# EAGLE library part UC530 (library hybridpi-rf)
Fastrax GPS antenna module Datasheet: UC530 <http://www.u-blox.com/images/downloads/Product_Docs/UC530_DataSheet_(FTX-HW-12009).pdf>
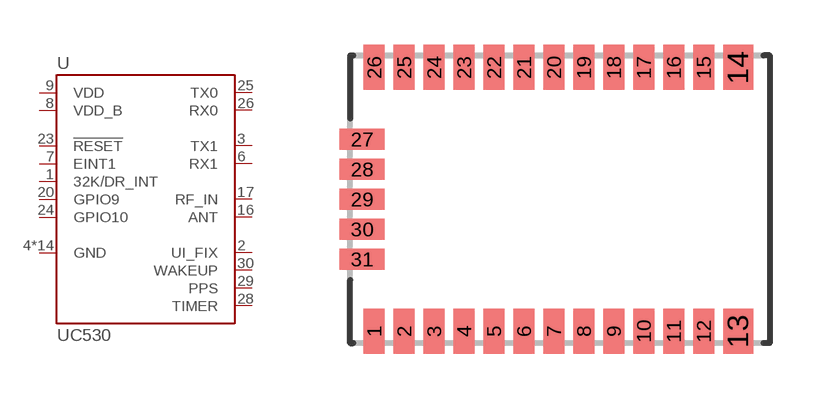
[diagram p0: symbol with the pads of UC530; footprint UC530]

Designator prefix U

## UC530 (EAGLEUP: UC530; VENDOR: MOUSER; VENDOR_PN: 916-UC530)  [UC530]
1  32K/DR_INT
2  UI_FIX
3  TX1
4  GND
5  GND
6  RX1
7  EINT1
8  VDD_B
9  VDD
10  GND
11  GND
12  GND
13  GND
14  GND
15  GND
16  ANT
17  RF_IN
18  GND
19  GND
20  GPIO9
21  GND
22  GND
23  !RESET!
24  GPIO10
25  TX0
26  RX0
27  GND
28  TIMER
29  PPS
30  WAKEUP
31  GND

## Footprint UC530 (pad centres in mm)
smd 0.7 x 1.5: 1 -6.2,-4.4; 2 -5.2,-4.4; 3 -4.2,-4.4; 4 -3.2,-4.4; 5 -2.2,-4.4; 6 -1.2,-4.4; 7 -0.2,-4.4; 8 0.8,-4.4; 9 1.8,-4.4; 10 2.8,-4.4; 11 3.8,-4.4; 12 4.8,-4.4; 15 4.8,4.4; 16 3.8,4.4; 17 2.8,4.4; 18 1.8,4.4; 19 0.8,4.4; 20 -0.2,4.4; 21 -1.2,4.4; 22 -2.2,4.4; 23 -3.2,4.4; 24 -4.2,4.4; 25 -5.2,4.4; 26 -6.2,4.4
smd 1 x 1.5: 13 5.95,-4.4; 14 5.95,4.4
smd 1.5 x 0.7: 27 -6.6,2; 28 -6.6,1; 29 -6.6,0; 30 -6.6,-1; 31 -6.6,-2